# Altium footprint library J PCB lib.PcbLib: 461 footprints (part 20 of 29)
Each footprint in its own frame and in the unit in brackets; x right, y up, seen from the top. Pads: shape width x height; smd on the part's side, far side on the other; paste and mask are expansions set on the pad; w line width, h text height; cw(c..) or ccw(c..) is an arc to the next point about the centre after c.
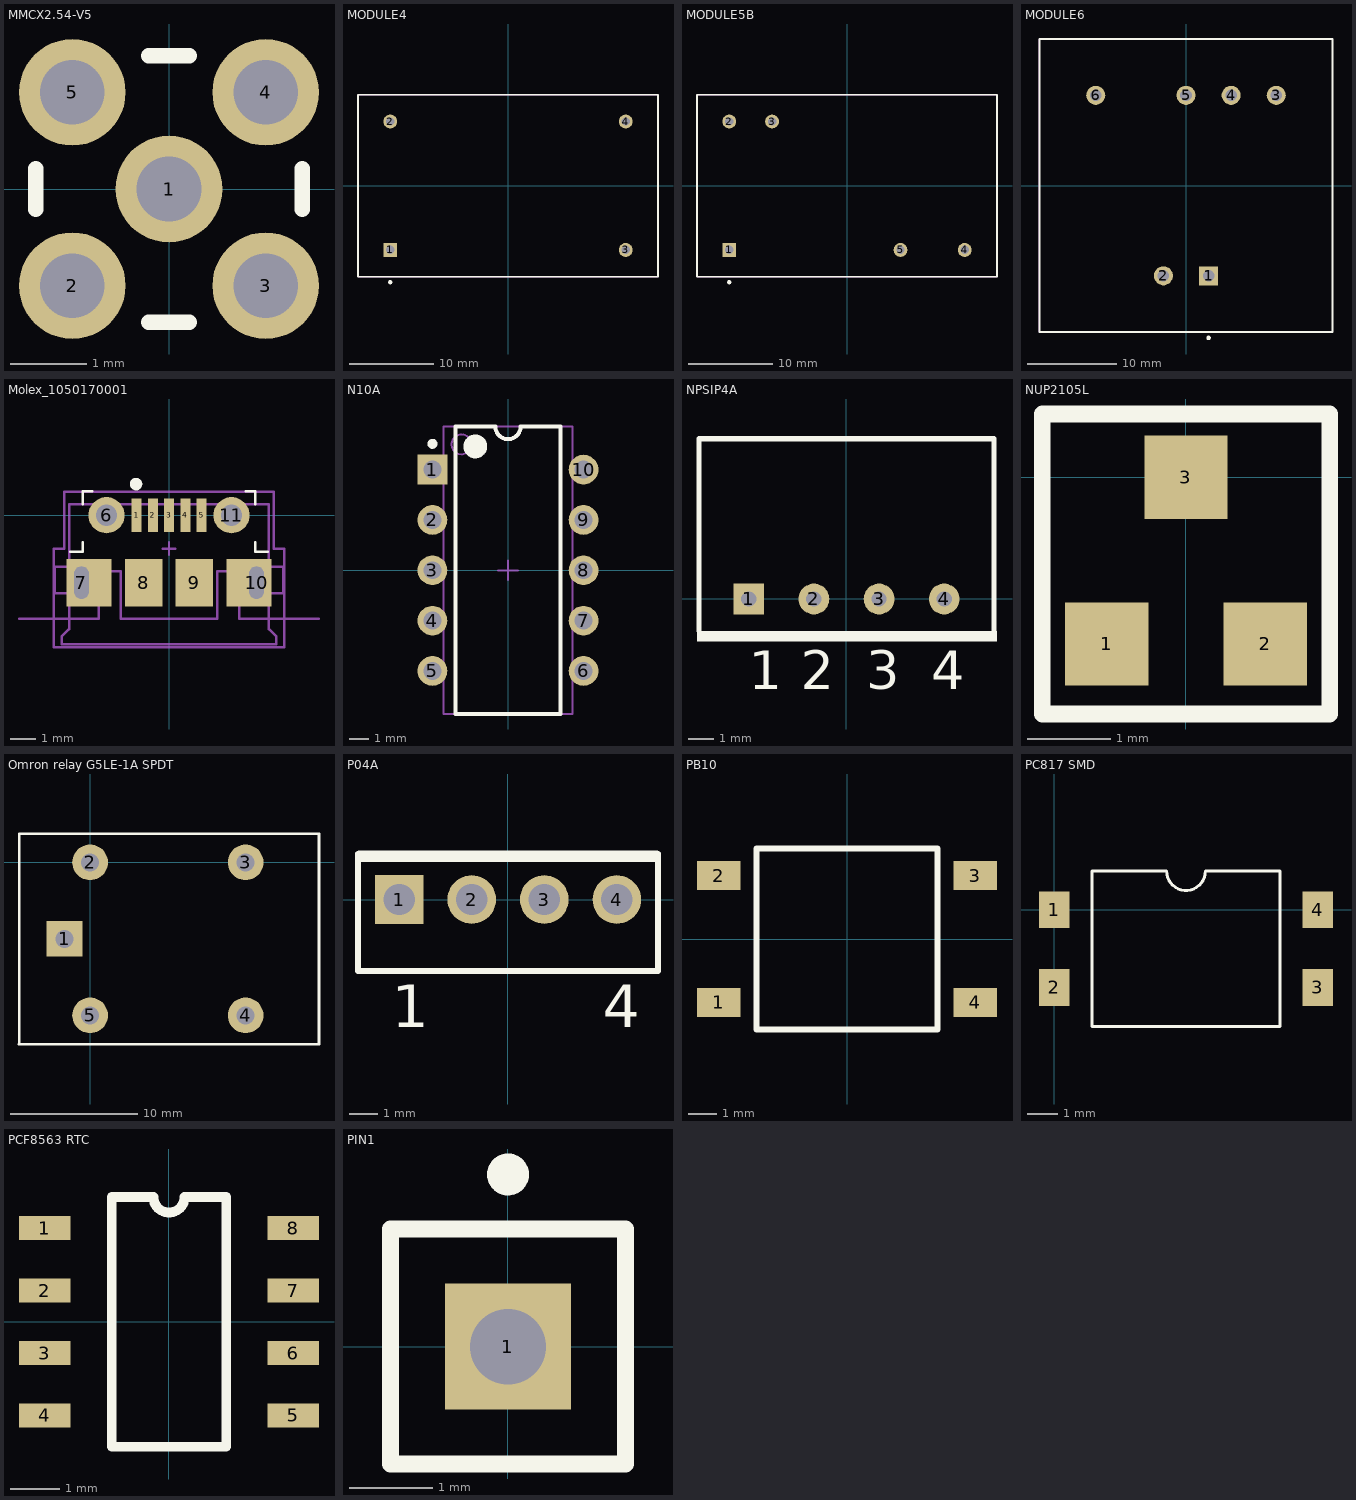
[diagram p19: the footprints below, top view; thin cyan lines are the x and y axes]

## MMCX2.54-V5 [mm] "Connector; RF Coaxial, MMCX, Thru-Hole; 5 Position; Vertical"
height 4.45
pads (5):
  round 1.4 hole 0.85: 1(0,0) 2(-1.27,-1.27) 3(1.27,-1.27) 4(1.27,1.27) 5(-1.27,1.27)
Top Overlay:
  lines w0.2: -1.75,-0.27 -1.75,0.27 ; -0.27,-1.75 0.27,-1.75 ; -0.27,1.75 0.27,1.75 ; 1.75,-0.27 1.75,0.27

## MODULE4 [mm] "DIP; 4 Round Pins; Row Space 27.94 mm; Pitch 15.24 mm"
height 14
pads (4):
  rect 1.65x1.65 hole 1: 1(-13.97,-7.62)
  round 1.65 hole 1: 2(-13.97,7.62) 3(13.97,-7.62) 4(13.97,7.62)
Top Overlay:
  circle w0.25: c-13.97,-11.45 r0.125
  lines w0.2: -17.8,-10.8 17.8,-10.8 17.8,10.8 -17.8,10.8 -17.8,-10.8
Mechanical 13:
  lines w0.1: -17.8,-10.8 17.8,-10.8 17.8,10.8 -17.8,10.8 -17.8,-10.8
3D body: height 14, standoff 0, extent -17.8,-10.8 17.8,10.8

## MODULE5B [mm] "DIP; 5 Round Pins; Row Space 15.24 mm; Pitch 2.54 mm"
height 14
pads (5):
  rect 1.65x1.65 hole 1: 1(-13.97,-7.62)
  round 1.65 hole 1: 2(-13.97,7.62) 3(-8.89,7.62) 4(13.97,-7.62) 5(6.35,-7.62)
Top Overlay:
  circle w0.25: c-13.97,-11.45 r0.125
  lines w0.2: -17.8,-10.8 17.8,-10.8 17.8,10.8 -17.8,10.8 -17.8,-10.8
Mechanical 13:
  lines w0.1: -17.8,-10.8 -17.8,10.8 17.8,10.8 17.8,-10.8 -17.8,-10.8
3D body: height 14, standoff 0, extent -17.8,-10.8 17.8,10.8

## MODULE6 [mm] "DIP; 6 Round Pins; Row Space 20.32 mm; Pitch 2.54 mm"
height 16.5
pads (6):
  rect 2.15x2.15 hole 1.3: 1(2.54,-10.16)
  round 2.15 hole 1.3: 2(-2.54,-10.16) 3(10.16,10.16) 4(5.08,10.16) 5(0,10.16) 6(-10.16,10.16)
Top Overlay:
  circle w0.25: c2.54,-17.15 r0.125
  lines w0.2: -16.5,-16.5 -16.5,16.5 16.5,16.5 16.5,-16.5 -16.5,-16.5
Mechanical 13:
  lines w0.1: -16.5,-16.5 -16.5,16.5 16.5,16.5 16.5,-16.5 -16.5,-16.5
3D body: height 16.5, standoff 0, extent -16.5,-16.5 16.5,16.5

## Molex_1050170001 [mm]
pads (11):
  rect 0.4x1.35 smd: 1(-1.3,0) 2(-0.65,0) 3(0,0) 4(0.65,0) 5(1.3,0)
  round 1.45 hole 0.85: 6(-2.5,0) 11(2.5,0)
  rect 1.8x1.9 hole 0.6 slot 1.3 at 90 deg copper offset 0.3,0: 7(-3.5,-2.7)
  rect 1.5x1.9 smd: 8(-1,-2.7) 9(1,-2.7)
  rect 1.8x1.9 hole 0.6 slot 1.3 at 90 deg copper offset -0.3,0: 10(3.5,-2.7)
Top Overlay:
  circle w0.25: c-1.319,1.245 r0.125
  lines w0.1: -3.953,-1.465 -3.445,-1.465 -3.445,-1.084 ; -3.445,0.44 -3.445,0.948 -3.064,0.948 ; 3.064,0.948 3.445,0.948 3.445,0.44 ; 3.445,-1.084 3.445,-1.465 3.953,-1.465
Mechanical 1:
  lines w0.1: -6,-4.137 -2.82,-4.137 -2.82,-2.238 -1.92,-2.238 -1.92,-4.137 0,-4.137 1.92,-4.137 1.92,-2.238 2.82,-2.238 2.82,-4.137 6,-4.137
  text "Board edge" at 5.588,-4.005 h0.2
Mechanical 13:
  lines w0.1: -4,0.442 4,0.442 ; -4,0.442 4,0.442 ; -4,0.442 -4,-2.058 -4.572,-2.058 -4.572,-3.116 -4,-3.116 -4,-4.558 -4.3,-4.858 -4.3,-5.158 4.3,-5.158 4.3,-4.858 4,-4.558 4,-3.116 4.572,-3.116 4.572,-2.058 4,-2.058 4,0.442
Mechanical 15:
  lines w0.1: -4.2,0.937 4.2,0.937 ; -4.2,0.94 -4.2,-1.338 -4.6,-1.338 -4.6,-4.137 -4.6,-5.275 4.6,-5.275 4.6,-4.137 4.6,-1.338 4.2,-1.338 4.2,0.94 ; -0.254,-1.338 0.254,-1.338 ; 0,-1.592 0,-1.084
3D body "1050170001.stp": height 2.58, standoff -0.72, extent -4.1,-5.207 4.1,0.193

## N10A [mm] "DIP; 10 Leads; Row Spacing 7.62 mm; Pitch 2.54 mm"
height 5.08
pads (10):
  rect 1.5x1.5 hole 0.9: 1(-3.81,5.08)
  round 1.5 hole 0.9: 2(-3.81,2.54) 3(-3.81,0) 4(-3.81,-2.54) 5(-3.81,-5.08) 6(3.81,-5.08) 7(3.81,-2.54) 8(3.81,0) 9(3.81,2.54) 10(3.81,5.08)
Top Overlay:
  circle w0.6: c-1.65,6.25 r0.3
  circle w0.25: c-3.81,6.38 r0.125
  lines w0.2: -2.65,-7.25 2.65,-7.25 2.65,7.25 0.635,7.25 cw(c0,7.25) -0.635,7.25 -2.65,7.25 -2.65,-7.25
Mechanical 13:
  circle w0.1: c-2.35,6.35 r0.5
  lines w0.1: -3.25,-7.25 3.25,-7.25 3.25,7.25 -3.25,7.25 -3.25,-7.25
Mechanical 15:
  lines w0.1: -0.5,0 0.5,0 ; 0,-0.5 0,0.5
3D body: height 5.08, standoff 0, extent -3.25,-7.25 3.25,7.25

## NPSIP4A [mm] "SIP; 4 Leads; Body 10 x 11.5 x 7.5 mm (typ); Pitch 2.54 mm"
height 10.6
pads (4):
  rect 1.2x1.2 hole 0.6: 1(-3.81,0)
  round 1.2 hole 0.6: 2(-1.27,0) 3(1.27,0) 4(3.81,0)
Top Overlay:
  rectangle: -5.83,-1.65 5.87,-1.25
  lines w0.2: -5.75,-1.25 -5.75,6.25 5.75,6.25 5.75,-1.25
  text "4" at 3.302,-3.52 h1.5
  text "3" at 0.762,-3.52 h1.5
  text "2" at -1.778,-3.52 h1.5
  text "1" at -3.81,-3.52 h1.5

## NUP2105L [mm] "CAN ESD DIODES"
height 1.7
pads (3):
  rect 1x1 smd: 1(-0.95,-2) 2(0.95,-2) 3(0,0)
Top Overlay:
  lines w0.2: -1.725,-2.841 1.725,-2.841 1.725,0.759 -1.725,0.759 -1.725,-2.841

## Omron relay G5LE-1A SPDT [mm]
pads (5):
  rect 2.8x2.8 hole 1.4: 1(-2,-6)
  round 2.8 hole 1.4: 2(0,0) 3(12.2,0) 4(12.2,-12) 5(0,-12)
Top Overlay:
  lines w0.2: -5.575,-14.275 17.925,-14.275 ; -5.55,-14.25 -5.55,2.25 17.95,2.25 17.95,-14.25

## P04A [mm] "TO, Thru-Hole, Vertical, Heatsink Mounted; 4 In-Line Leads; Pitch 2.54 mm"
height 20.6
pads (4):
  rect 1.7x1.7 hole 1.1: 1(-3.81,0)
  round 1.7 hole 1.1: 2(-1.27,0) 3(1.27,0) 4(3.81,0)
Top Overlay:
  rectangle: -5.25,1.311 5.25,1.711
  lines w0.2: -5.25,1.6 -5.25,-2.5 5.25,-2.5 5.25,1.6
  text "4" at 3.31,-4.475 h1.5
  text "1" at -4.06,-4.475 h1.5

## PB10 [mil]
pads (4):
  rect 60x40 smd: 1(-177.17,-87.5) 2(-177.17,87.5) 3(177.17,87.5) 4(177.17,-87.5)
Top Overlay:
  lines w8: -125,-125 -125,125 125,125 125,-125 -125,-125

## PC817 SMD [mm]
pads (4):
  rect 1x1.2 smd: 1(0,0) 2(0,-2.54) 3(8.62,-2.54) 4(8.62,0)
Top Overlay:
  lines w0.1: 1.235,-3.81 1.235,1.27 3.675,1.27 ccw(c4.31,1.27) 4.945,1.27 7.385,1.27 7.385,-3.81 1.235,-3.81

## PCBComponent_1 [mm]

## PCBComponent_1 - duplicate [mm]

## PCF8563 RTC [mm]
pads (8):
  rect 1.05x0.49 smd: 1(-2.525,1.905) 2(-2.525,0.635) 3(-2.525,-0.635) 4(-2.525,-1.905) 5(2.525,-1.905) 6(2.525,-0.635) 7(2.525,0.635) 8(2.525,1.905)
Top Overlay:
  lines w0.2: -1.165,-2.54 -1.165,2.54 -0.318,2.54 ccw(c0,2.54) 0.318,2.54 1.165,2.54 1.165,-2.54 -1.165,-2.54

## PIN1 [mm] "Generic Antenna; 1 Lead"
pads (1):
  rect 1.5x1.5 hole 0.9: 1(0,0)
Top Overlay:
  circle w0.25: c0,2.05 r0.125
  lines w0.2: -1.4,-1.4 1.4,-1.4 1.4,1.4 -1.4,1.4 -1.4,-1.4